# Altium schematic symbol library tvs.SchLib: 1 symbol
Pins are listed as number, name and electrical type; pins without a type are passive.

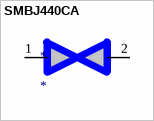
[diagram p0: symbol SMBJ440CA]

## SMBJ440CA
designator *
pins: 1, 2